# EAGLE library part TPS55340_PWP_14 (library TPS55340)
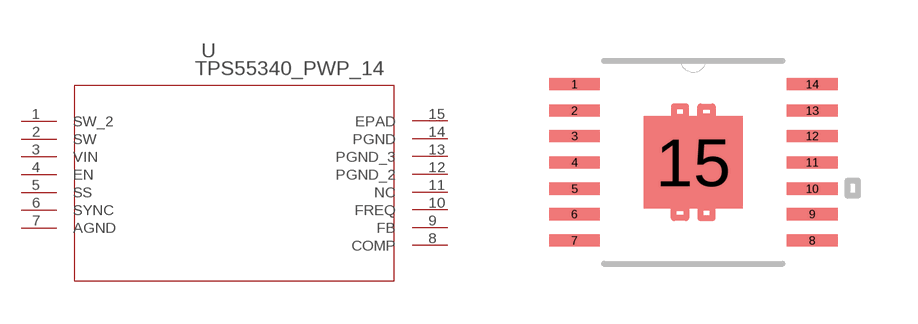
[diagram p0: symbol with the pads of PWP14; footprint PWP14]

Designator prefix U

## TPS55340_PWP_14 (MANUFACTURER_PART_NUMBER: tps55340_pwp_14; VENDOR: TEXAS INSTRUMENTS)  [PWP14]
1  SW_2  pas
2  SW  pas
3  VIN  in
4  EN  pas
5  SS  pas
6  SYNC  pas
7  AGND  pwr
8  COMP  pas
9  FB  pas
10  FREQ  pas
11  NC  nc
12  PGND_2  pwr
13  PGND_3  pwr
14  PGND  pwr
15  EPAD  pas

## Footprint PWP14 (pad centres in mm)
smd 1.27 x 0.305: 1 -2.972,1.956; 2 -2.972,1.295; 3 -2.972,0.66; 4 -2.972,0; 5 -2.972,-0.66; 6 -2.972,-1.295; 7 -2.972,-1.956; 8 2.972,-1.956; 9 2.972,-1.295; 10 2.972,-0.66; 11 2.972,0; 12 2.972,0.66; 13 2.972,1.295; 14 2.972,1.956
smd 2.464 x 2.311: 15 0,0